# EAGLE library part PIC18F4*21 (library micro-pic18xxx)
High-Performance Microcontrollers with 10-Bit A/D
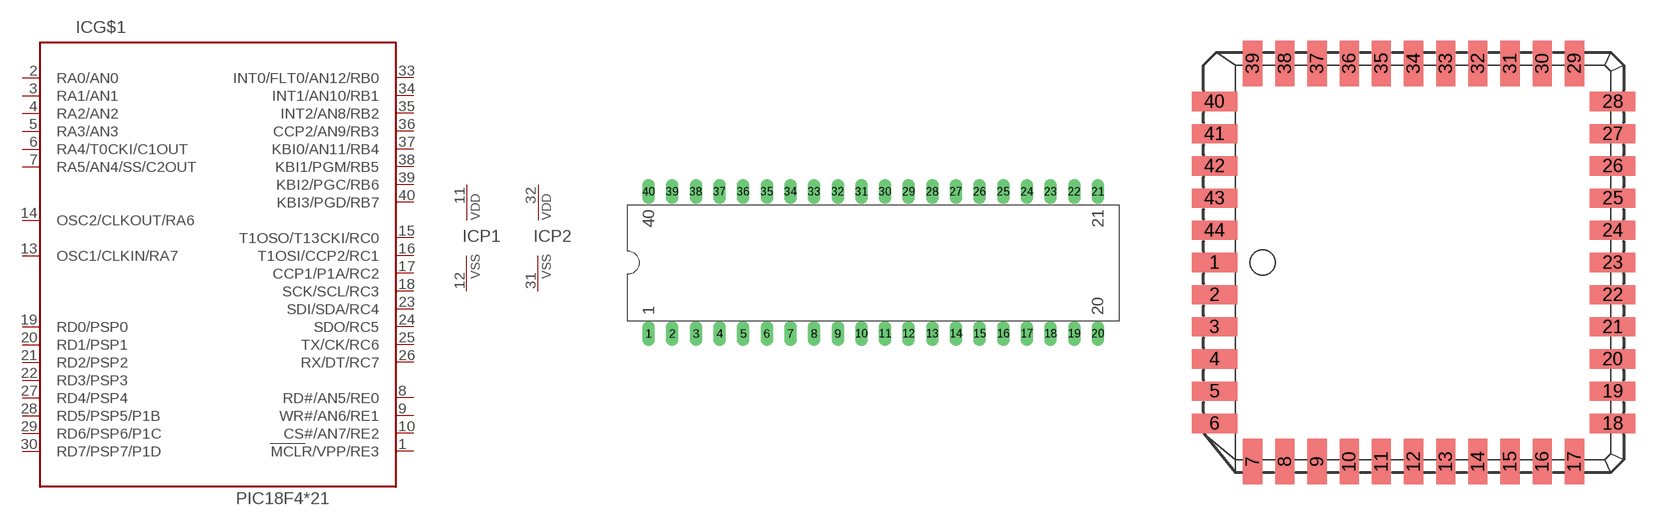
[diagram p4: symbol with the pads of DIL40; footprints DIL40, PLCC-44]

Designator prefix IC; gates G$1=F4X21 P1=GNDVCC P2=GNDVCC

## PIC18F4221P, PIC18F4321P  [DIL40]
1  G$1:MCLR/VPP/RE3  in
2  G$1:RA0/AN0
3  G$1:RA1/AN1
4  G$1:RA2/AN2
5  G$1:RA3/AN3
6  G$1:RA4/T0CKI/C1OUT
7  G$1:RA5/AN4/SS/C2OUT
8  G$1:RD#/AN5/RE0
9  G$1:WR#/AN6/RE1
10  G$1:CS#/AN7/RE2
11  P1:VDD  pwr
12  P1:VSS  pwr
13  G$1:OSC1/CLKIN/RA7  in
14  G$1:OSC2/CLKOUT/RA6  out
15  G$1:T1OSO/T13CKI/RC0
16  G$1:T1OSI/CCP2/RC1
17  G$1:CCP1/P1A/RC2
18  G$1:SCK/SCL/RC3
19  G$1:RD0/PSP0
20  G$1:RD1/PSP1
21  G$1:RD2/PSP2
22  G$1:RD3/PSP3
23  G$1:SDI/SDA/RC4
24  G$1:SDO/RC5
25  G$1:TX/CK/RC6
26  G$1:RX/DT/RC7
27  G$1:RD4/PSP4
28  G$1:RD5/PSP5/P1B
29  G$1:RD6/PSP6/P1C
30  G$1:RD7/PSP7/P1D
31  P2:VSS  pwr
32  P2:VDD  pwr
33  G$1:INT0/FLT0/AN12/RB0
34  G$1:INT1/AN10/RB1
35  G$1:INT2/AN8/RB2
36  G$1:CCP2/AN9/RB3
37  G$1:KBI0/AN11/RB4
38  G$1:KBI1/PGM/RB5
39  G$1:KBI2/PGC/RB6
40  G$1:KBI3/PGD/RB7

## PIC18F4221L, PIC18F4321L  [PLCC-44]
2  G$1:MCLR/VPP/RE3  in
3  G$1:RA0/AN0
4  G$1:RA1/AN1
5  G$1:RA2/AN2
6  G$1:RA3/AN3
7  G$1:RA4/T0CKI/C1OUT
8  G$1:RA5/AN4/SS/C2OUT
9  G$1:RD#/AN5/RE0
10  G$1:WR#/AN6/RE1
11  G$1:CS#/AN7/RE2
12  P1:VDD  pwr
13  P1:VSS  pwr
14  G$1:OSC1/CLKIN/RA7  in
15  G$1:OSC2/CLKOUT/RA6  out
16  G$1:T1OSO/T13CKI/RC0
18  G$1:T1OSI/CCP2/RC1
19  G$1:CCP1/P1A/RC2
20  G$1:SCK/SCL/RC3
21  G$1:RD0/PSP0
22  G$1:RD1/PSP1
23  G$1:RD2/PSP2
24  G$1:RD3/PSP3
25  G$1:SDI/SDA/RC4
26  G$1:SDO/RC5
27  G$1:TX/CK/RC6
29  G$1:RX/DT/RC7
30  G$1:RD4/PSP4
31  G$1:RD5/PSP5/P1B
32  G$1:RD6/PSP6/P1C
33  G$1:RD7/PSP7/P1D
34  P2:VSS  pwr
35  P2:VDD  pwr
36  G$1:INT0/FLT0/AN12/RB0
37  G$1:INT1/AN10/RB1
38  G$1:INT2/AN8/RB2
39  G$1:CCP2/AN9/RB3
41  G$1:KBI0/AN11/RB4
42  G$1:KBI1/PGM/RB5
43  G$1:KBI2/PGC/RB6
44  G$1:KBI3/PGD/RB7

## PIC18F4221PT, PIC18F4321PT  [TQFP44]
1  G$1:RX/DT/RC7
2  G$1:RD4/PSP4
3  G$1:RD5/PSP5/P1B
4  G$1:RD6/PSP6/P1C
5  G$1:RD7/PSP7/P1D
6  P1:VSS  pwr
7  P1:VDD  pwr
8  G$1:INT0/FLT0/AN12/RB0
9  G$1:INT1/AN10/RB1
10  G$1:INT2/AN8/RB2
11  G$1:CCP2/AN9/RB3
14  G$1:KBI0/AN11/RB4
15  G$1:KBI1/PGM/RB5
16  G$1:KBI2/PGC/RB6
17  G$1:KBI3/PGD/RB7
18  G$1:MCLR/VPP/RE3  in
19  G$1:RA0/AN0
20  G$1:RA1/AN1
21  G$1:RA2/AN2
22  G$1:RA3/AN3
23  G$1:RA4/T0CKI/C1OUT
24  G$1:RA5/AN4/SS/C2OUT
25  G$1:RD#/AN5/RE0
26  G$1:WR#/AN6/RE1
27  G$1:CS#/AN7/RE2
28  P2:VDD  pwr
29  P2:VSS  pwr
30  G$1:OSC1/CLKIN/RA7  in
31  G$1:OSC2/CLKOUT/RA6  out
32  G$1:T1OSO/T13CKI/RC0
35  G$1:T1OSI/CCP2/RC1
36  G$1:CCP1/P1A/RC2
37  G$1:SCK/SCL/RC3
38  G$1:RD0/PSP0
39  G$1:RD1/PSP1
40  G$1:RD2/PSP2
41  G$1:RD3/PSP3
42  G$1:SDI/SDA/RC4
43  G$1:SDO/RC5
44  G$1:TX/CK/RC6

## Footprint DIL40 (pad centres in mm)
DIL package type P
drill 0.813 long: 1 -24.13,-7.62; 2 -21.59,-7.62; 3 -19.05,-7.62; 4 -16.51,-7.62; 5 -13.97,-7.62; 6 -11.43,-7.62; 7 -8.89,-7.62; 8 -6.35,-7.62; 9 -3.81,-7.62; 10 -1.27,-7.62; 11 1.27,-7.62; 12 3.81,-7.62; 13 6.35,-7.62; 14 8.89,-7.62; 15 11.43,-7.62; 16 13.97,-7.62; 17 16.51,-7.62; 18 19.05,-7.62; 19 21.59,-7.62; 20 24.13,-7.62; 21 24.13,7.62; 22 21.59,7.62; 23 19.05,7.62; 24 16.51,7.62; 25 13.97,7.62; 26 11.43,7.62; 27 8.89,7.62; 28 6.35,7.62; 29 3.81,7.62; 30 1.27,7.62; 31 -1.27,7.62; 32 -3.81,7.62; 33 -6.35,7.62; 34 -8.89,7.62; 35 -11.43,7.62; 36 -13.97,7.62; 37 -16.51,7.62; 38 -19.05,7.62; 39 -21.59,7.62; 40 -24.13,7.62

## Footprint PLCC-44 (pad centres in mm)
Plastic LCC square package type L
smd 1.8 x 0.76: 1 -7.86,0; 2 -7.86,-1.27; 3 -7.86,-2.54; 4 -7.86,-3.81; 5 -7.86,-5.08; 6 -7.86,-6.35; 18 7.86,-6.35; 19 7.86,-5.08; 20 7.86,-3.81; 21 7.86,-2.54; 22 7.86,-1.27; 23 7.86,0; 24 7.86,1.27; 25 7.86,2.54; 26 7.86,3.81; 27 7.86,5.08; 28 7.86,6.35; 40 -7.86,6.35; 41 -7.86,5.08; 42 -7.86,3.81; 43 -7.86,2.54; 44 -7.86,1.27
smd 0.76 x 1.8: 7 -6.35,-7.86; 8 -5.08,-7.86; 9 -3.81,-7.86; 10 -2.54,-7.86; 11 -1.27,-7.86; 12 0,-7.86; 13 1.27,-7.86; 14 2.54,-7.86; 15 3.81,-7.86; 16 5.08,-7.86; 17 6.35,-7.86; 29 6.35,7.86; 30 5.08,7.86; 31 3.81,7.86; 32 2.54,7.86; 33 1.27,7.86; 34 0,7.86; 35 -1.27,7.86; 36 -2.54,7.86; 37 -3.81,7.86; 38 -5.08,7.86; 39 -6.35,7.86

## Footprint TQFP44 (pad centres in mm)
TQFP package type TQ
smd 1.5 x 0.5: 1 -5.8,4; 2 -5.8,3.2; 3 -5.8,2.4; 4 -5.8,1.6; 5 -5.8,0.8; 6 -5.8,0; 7 -5.8,-0.8; 8 -5.8,-1.6; 9 -5.8,-2.4; 10 -5.8,-3.2; 11 -5.8,-4; 23 5.8,-4; 24 5.8,-3.2; 25 5.8,-2.4; 26 5.8,-1.6; 27 5.8,-0.8; 28 5.8,0; 29 5.8,0.8; 30 5.8,1.6; 31 5.8,2.4; 32 5.8,3.2; 33 5.8,4
smd 0.5 x 1.5: 12 -4,-5.8; 13 -3.2,-5.8; 14 -2.4,-5.8; 15 -1.6,-5.8; 16 -0.8,-5.8; 17 0,-5.8; 18 0.8,-5.8; 19 1.6,-5.8; 20 2.4,-5.8; 21 3.2,-5.8; 22 4,-5.8; 34 4,5.8; 35 3.2,5.8; 36 2.4,5.8; 37 1.6,5.8; 38 0.8,5.8; 39 0,5.8; 40 -0.8,5.8; 41 -1.6,5.8; 42 -2.4,5.8; 43 -3.2,5.8; 44 -4,5.8